# Altium schematic symbol library RT0603DRD071ML.SchLib: 1 symbol
Pins are listed as number, name and electrical type; pins without a type are passive.

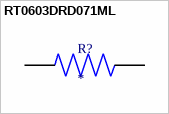
[diagram p0: symbol RT0603DRD071ML]

## RT0603DRD071ML
designator R?
MP: RT0603DRD071ML; MF: {'manufacturer': u'Yageo'}; Price: None; Availability: Unavailable; Value: *; Package: None
footprint RESC1608X55N
pins: 1, 2